# Altium footprint library PJ-037AH.PcbLib: 1 footprints
Each footprint in its own frame and in the unit in brackets; x right, y up, seen from the top. Pads: shape width x height; smd on the part's side, far side on the other; paste and mask are expansions set on the pad; w line width, h text height; cw(c..) or ccw(c..) is an arc to the next point about the centre after c.
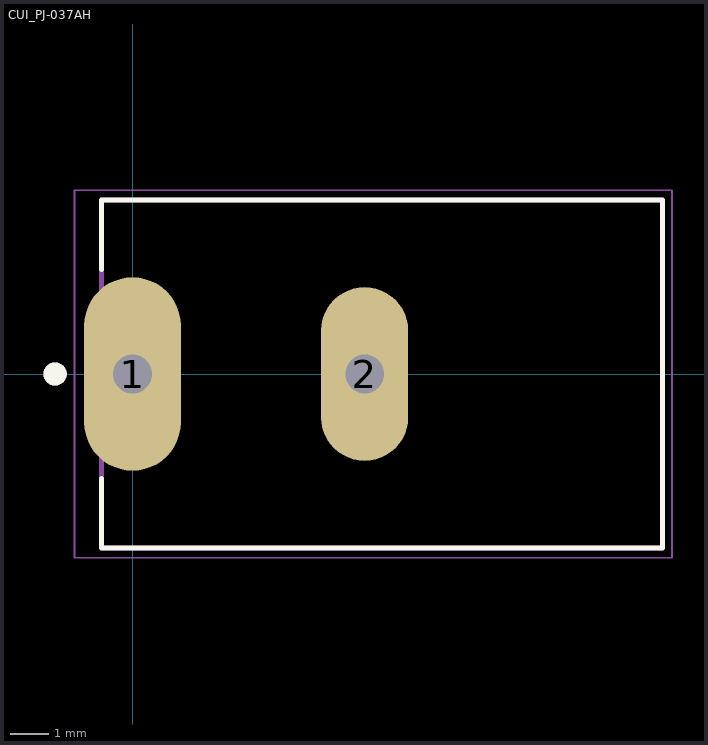
[diagram p0: the footprint, top view; thin cyan lines are the x and y axes]

## CUI_PJ-037AH [mm]
pads (2):
  oval 2.5x5 hole 1 square: 1(0,0)
  oval 2.25x4.5 hole 1 square: 2(6,0)
Top Overlay:
  circle w0.3: c-2,0 r0.15
  lines w0.127: -0.8,-2.7 -0.8,-4.5 13.7,-4.5 13.7,4.5 -0.8,4.5 -0.8,2.7
Mechanical 13:
  circle w0.3: c-2,0 r0.15
  lines w0.127: -0.8,-4.5 13.7,-4.5 13.7,4.5 -0.8,4.5 -0.8,-4.5
Mechanical 15:
  lines w0.05: -1.5,-4.75 13.95,-4.75 13.95,4.75 -1.5,4.75 -1.5,-4.75